# Altium footprint library Control_Board_Library.PcbLib: 61 footprints (part 1 of 4)
Each footprint in its own frame and in the unit in brackets; x right, y up, seen from the top. Pads: shape width x height; smd on the part's side, far side on the other; paste and mask are expansions set on the pad; w line width, h text height; cw(c..) or ccw(c..) is an arc to the next point about the centre after c.
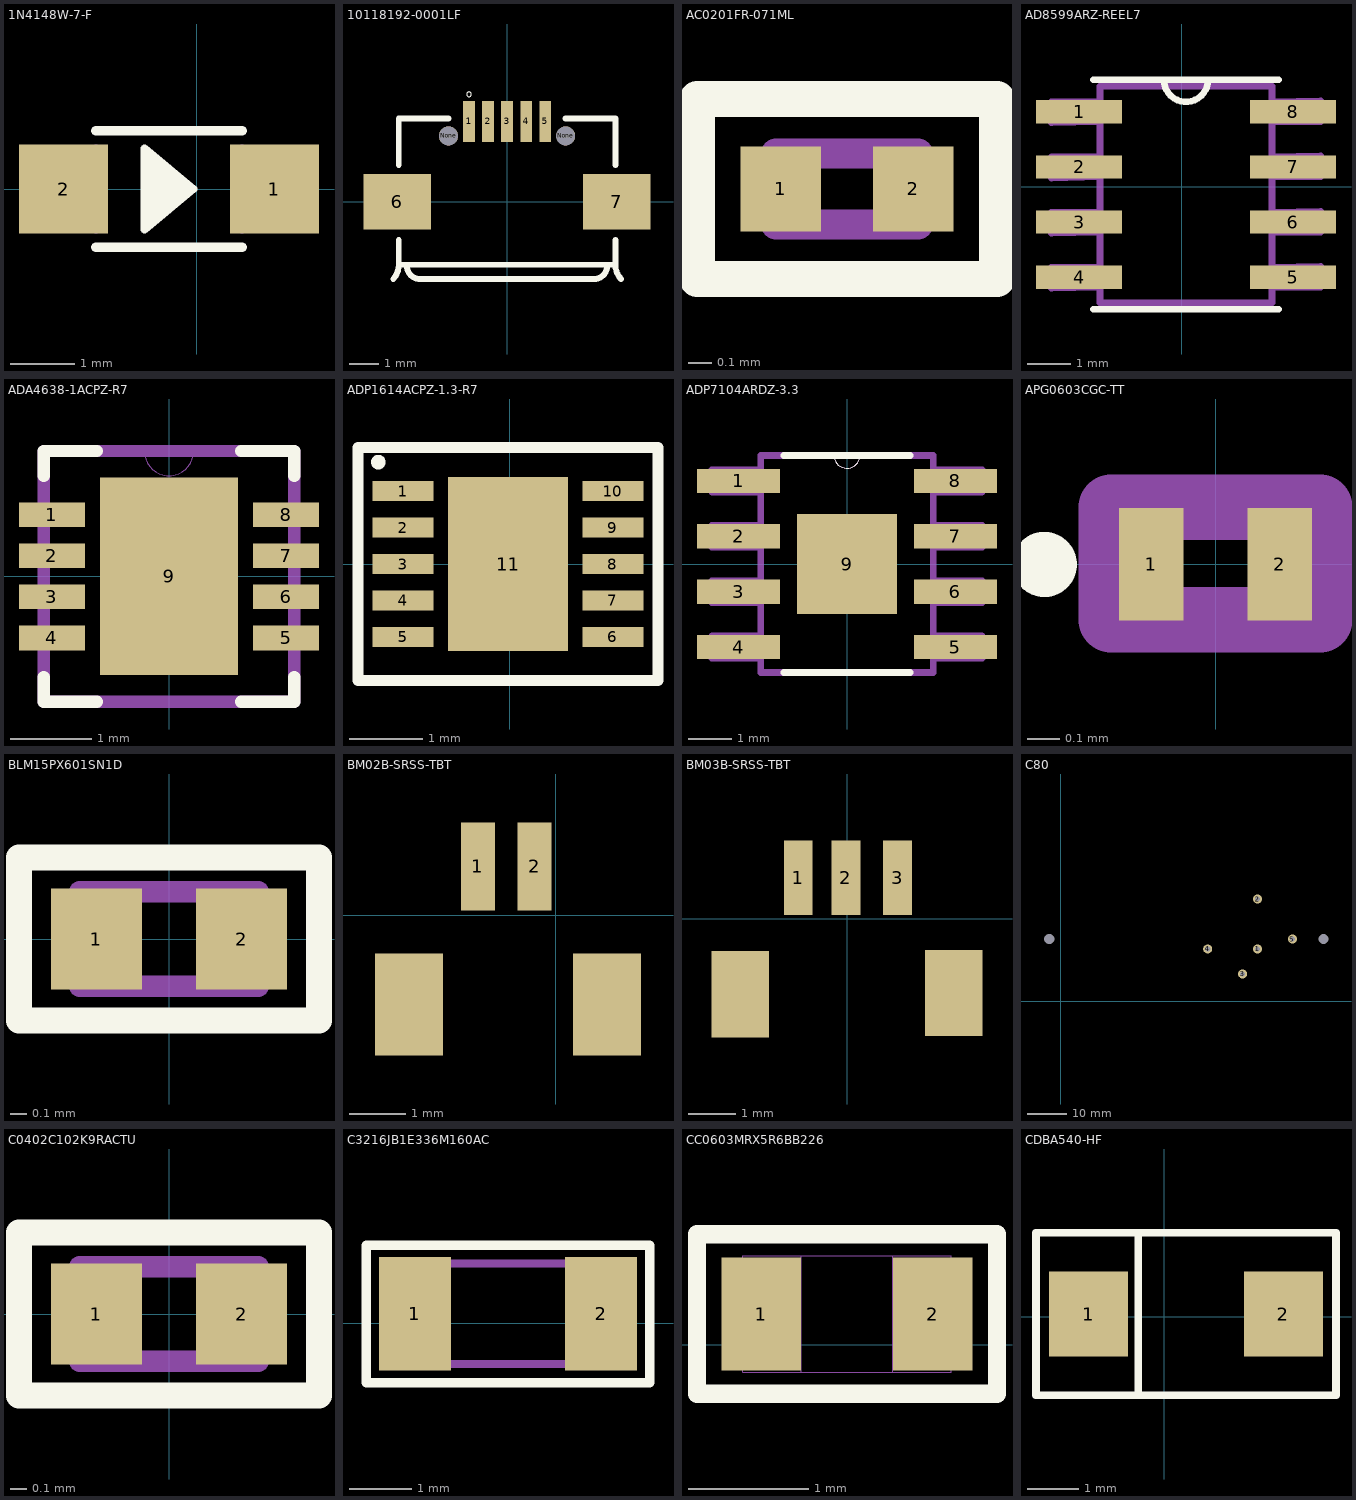
[diagram p0: the footprints below, top view; thin cyan lines are the x and y axes]

## 1N4148W-7-F [mil]
pads (2):
  rect 55x55 smd: 1(48,0) 2(-82,0)
Top Overlay:
  lines w5: -22,0 -22,5 ; -32,-20 -27,20 -7,0 -32,-15 ; -32,-20 -2,0 ; -32,-20 -32,-15 ; -32,-20 -32,-25 -2,0 ; -32,-15 -27,15 -12,0 -27,-10 -27,-5 ; -32,-15 -32,25 -2,0 ; -27,-5 -22,5 ; -27,-5 -17,0 -22,5 ; -27,-5 -27,10 -22,5
  lines w6: -62,-36 28,-36 ; -62,36 28,36
Mechanical 1:
  region: -64.24,-15.78 -93.92,-15.78 -93.92,17.72 -64.24,17.72
  region: 59.77,-15.78 30.33,-15.78 30.33,17.72 59.77,17.72
  lines w5: -62,-25 -62,25 ; 28,-25 28,25
3D body "SOD123.STEP": height 50, standoff 0, extent -89.83,-31.49 55.84,31.51

## 10118192-0001LF [mm]
pads (9):
  rect 0.4x1.4 smd: 1(-1.3,2.75) 2(-0.65,2.75) 3(0,2.75) 4(0.65,2.75) 5(1.3,2.75)
  rect 2.3x1.9 smd: 6(-3.75,0) 7(3.75,0)
  round 0.65 hole 0.65 unplated: None(-2,2.25) None(2,2.25)
Top Overlay:
  circle w0: c-1.3,3.67 r0.081
  lines w0.127: -3.42,-2.19 -3.42,-2.15
  lines w0.2: -3.887,-2.636 ccw(c-4.395,-2.162) -3.7,-2.15 ; -3.7,-1.3 -3.7,-2.15 ; -3.7,1.26 -3.7,2.85 -2,2.85 ; -3.42,-2.193 ccw(c-2.965,-2.185) -2.957,-2.64 ; -2.96,-2.64 2.96,-2.64 ; 2,2.85 3.7,2.85 3.7,1.26 ; 2.957,-2.64 ccw(c2.965,-2.185) 3.42,-2.193 ; 3.7,-1.3 3.7,-2.15 ; 3.887,-2.636 cw(c4.427,-2.15) 3.7,-2.15 ; -3.7,-2.15 -3.42,-2.15 3.7,-2.15
3D body "MICRO USB B.STEP": height 2.74, standoff -0.2, extent -3.99,-2.704 3.99,2.726

## AC0201FR-071ML [mm]
pads (2):
  rect 0.34x0.36 smd: 1(7.975,14.351) 2(8.535,14.351)
Top Overlay:
  lines w0.152: 7.62,13.97 7.62,14.732 8.89,14.732 8.89,13.97 7.62,13.97
Mechanical 1:
  region: 8.456,14.451 8.555,14.451 8.555,14.251 8.456,14.251
  region: 7.954,14.451 8.055,14.451 8.055,14.251 7.954,14.251
  lines w0.127: 7.955,14.201 7.955,14.501 8.555,14.501 8.555,14.201 7.955,14.201
3D body "Resistor_0201.STEP": height 0.34, standoff 0, extent 7.915,14.186 8.595,14.516

## AD8599ARZ-REEL7 [mil]
pads (8):
  rect 78x21 smd: 1(-93,68) 2(-93,18) 3(-93,-32) 4(-93,-82) 5(101,-82) 6(101,-32) 7(101,18) 8(101,68)
Top Overlay:
  lines w6: -80,-111 88,-111 ; -80,97 88,97 ; -16,97 ccw(c4,97) 24,97
Mechanical 1:
  lines w6: -118,-92 -74,-91 -74,-73 -118,-73 -118,-92 ; -118,-42 -74,-41 -74,-23 -118,-23 -118,-42 ; -118,8 -74,9 -74,27 -118,27 -118,8 ; -118,58 -74,59 -74,77 -118,77 -118,58 ; -74,-105 -74,91 -8,91 82,91 82,-105 -74,-105 ; 82,-91 126,-91 126,-72 82,-73 82,-91 ; 82,-41 126,-41 126,-22 82,-23 82,-41 ; 82,9 126,9 126,28 82,27 82,9 ; 82,59 126,59 126,78 82,77 82,59
3D body "8-SOIC.STEP": height 68.9, standoff 0, extent -118.1,-101.46 118.12,91.46

## ADA4638-1ACPZ-R7 [mil]
pads (9):
  rect 32x12 smd: 1(-57,30) 2(-57,10) 3(-57,-10) 4(-57,-30) 5(57,-30) 6(57,-10) 7(57,10) 8(57,30)
  rect 67x96 smd: 9(0,0)
Top Overlay:
  lines w6: -61,-49 -61,-61 -35,-61 ; -61,49 -61,61 -35,61 ; 35,-61 61,-61 61,-49 ; 35,61 61,61 61,49
Mechanical 1:
  lines w0: -12,61 ccw(c0,61) 12,61
  lines w6: -61,-61 61,-61 61,61 12,61 -12,61 -61,61 -61,-61

## ADP1614ACPZ-1.3-R7 [mm]
pads (11):
  rect 0.84x0.27 smd: 1(-1.465,1) 2(-1.465,0.5) 3(-1.465,0) 4(-1.465,-0.5) 5(-1.465,-1) 6(1.415,-1) 7(1.415,-0.5) 8(1.415,0) 9(1.415,0.5) 10(1.415,1)
  rect 1.64x2.38 smd: 11(-0.025,0)
Top Overlay:
  circle w0.1: c-1.803,1.397 r0.05
  lines w0.152: -2.083,-1.6 -2.083,1.6 2.032,1.6 2.032,-1.6 -2.083,-1.6
Top Paste:
  region: -0.617,0.753 0.493,0.753 0.493,-0.858 -0.617,-0.858
3D body "10-LFCSP-WD.STEP": height 0.85, standoff 0.05, extent -1.575,-1.5 1.525,1.5

## ADP7104ARDZ-3.3 [mil]
pads (9):
  rect 75x22 smd: 1(-98,75) 2(-98,25) 3(-98,-25) 4(-98,-75) 5(98,-75) 6(98,-25) 7(98,25) 8(98,75)
  rect 90x90 smd: 9(0,0)
Top Overlay:
  lines w0: -12,98.08 ccw(c0,98.5) 12,98.92
  lines w6: -57,-98 57,-98 ; -57,98 -12,98 57,98
Mechanical 4:
  lines w0: -12,98.08 ccw(c0,98.5) 12,98.92 cw(c0,98.5) -12,98.08
  lines w6: -122,-85 -122,-65 ; -122,-85 -78,-85 ; -122,-85 -122,-65 ; -122,-85 -78,-85 ; -122,-65 -78,-65 ; -122,-65 -78,-65 ; -122,-35 -122,-15 ; -122,-35 -78,-35 ; -122,-35 -122,-15 ; -122,-35 -78,-35 ; -122,-15 -78,-15 ; -122,-15 -78,-15 ; -122,15 -122,35 ; -122,15 -78,15 ; -122,15 -122,35 ; -122,15 -78,15 ; -122,35 -78,35 ; -122,35 -78,35 ; -122,65 -122,85 ; -122,65 -78,65 ; -122,65 -122,85 ; -122,65 -78,65 ; -122,85 -78,85 ; -122,85 -78,85 ; -78,-98 78,-98 ; -78,-98 -78,98 ; -78,-98 78,-98 ; -78,-98 -78,98 ; -78,-85 -78,-65 ; -78,-85 -78,-65 ; -78,-35 -78,-15 ; -78,-35 -78,-15 ; -78,15 -78,35 ; -78,15 -78,35 ; -78,65 -78,85 ; -78,65 -78,85 ; -78,98 -12,98 ; -78,98 -12,98 ; -12,98 78,98 ; -12,98 78,98 ; 78,-98 78,98 ; 78,-98 78,98 ; 78,-85 78,-65 ; 78,-85 122,-85 ; 78,-85 78,-65 ; 78,-85 122,-85 ; 78,-65 122,-65 ; 78,-65 122,-65 ; 78,-35 78,-15 ; 78,-35 122,-35 ; 78,-35 78,-15 ; 78,-35 122,-35 ; 78,-15 122,-15 ; 78,-15 122,-15 ; 78,15 78,35 ; 78,15 122,15 ; 78,15 78,35 ; 78,15 122,15 ; 78,35 122,35 ; 78,35 122,35 ; 78,65 78,85 ; 78,65 122,65 ; 78,65 78,85 ; 78,65 122,65 ; 78,85 122,85 ; 78,85 122,85 ; 122,-85 122,-65 ; 122,-85 122,-65 ; 122,-35 122,-15 ; 122,-35 122,-15 ; 122,15 122,35 ; 122,15 122,35 ; 122,65 122,85 ; 122,65 122,85
3D body "ADP7104.step": height 66.93, standoff 0, extent -118.11,-96.45 118.11,96.46

## APG0603CGC-TT [mm]
pads (2):
  rect 0.2x0.35 smd: 1(-0.2,0) 2(0.2,0)
Top Overlay:
  circle w0.152: c-0.533,0 r0.025
Mechanical 1:
  lines w0.203: -0.325,-0.172 -0.325,0.178 0.325,0.178 0.325,-0.172 -0.325,-0.172
3D body: height 0.2, standoff 0, extent -0.381,-0.254 0.381,0.254

## BLM15PX601SN1D [mm]
pads (2):
  rect 0.54x0.6 smd: 1(-0.43,0) 2(0.43,0)
Top Overlay:
  lines w0.152: -0.889,-0.483 -0.889,0.483 0.889,0.483 0.889,-0.483 -0.889,-0.483
Mechanical 1:
  lines w0.127: -0.53,-0.28 -0.53,0.28 0.53,0.28 0.53,-0.28 -0.53,-0.28
3D body "Capacitor_0402.stp": height 0.55, standoff 0, extent -0.525,-0.279 0.525,0.271

## BM02B-SRSS-TBT [mm]
pads (4):
  rect 0.6x1.55 smd: 1(-1.377,0.86) 2(-0.377,0.86)
  rect 1.2x1.8 smd: ""(-2.591,-1.575) ""(0.9,-1.575)
3D body "BM02B-SRSS-TB.STEP": height 4.28, standoff -0.04, extent -2.889,-2.279 1.111,1.321

## BM03B-SRSS-TBT [mm]
pads (5):
  rect 0.6x1.55 smd: 1(-1.021,0.86) 2(-0.021,0.86) 3(1.056,0.86)
  rect 1.2x1.8 smd: ""(-2.235,-1.575) ""(2.235,-1.549)
3D body "BM03B-SRSS-TB.STEP": height 4.28, standoff -0.04, extent -2.449,-2.351 2.551,1.249

## C80 [mil]
pads (7):
  round 90 hole 52: 1(1970,525) 2(1970,1025) 3(1820,275) 4(1470,525) 5(2320,625)
  round 0 hole 104 unplated: ""(-119,625) ""(2631,625)
Bottom Overlay:
  lines w1: -250,475 -250,775
  lines w6: -250,475 0,475 ; -250,775 0,775 ; 2506,475 2756,475 2756,775 2506,775 ; 0,0 0,1250 2506,1250 2506,0 0,0
3D body "C80 EMCO.STEP": height 100, standoff -725.24, extent -697.85,-1 2749,1249

## C0402C102K9RACTU [mm]
pads (2):
  rect 0.54x0.6 smd: 1(-0.43,0) 2(0.43,0)
Top Overlay:
  lines w0.152: -0.889,-0.483 -0.889,0.483 0.889,0.483 0.889,-0.483 -0.889,-0.483
Mechanical 1:
  lines w0.127: -0.53,-0.28 -0.53,0.28 0.53,0.28 0.53,-0.28 -0.53,-0.28
3D body "Capacitor_0402.stp": height 0.55, standoff 0, extent -0.525,-0.279 0.525,0.271

## C3216JB1E336M160AC [mm]
pads (2):
  rect 1.15x1.82 smd: 1(-4.355,0.152) 2(-1.385,0.152)
Top Overlay:
  lines w0.152: -5.131,-0.948 -5.131,1.245 -0.61,1.245 -0.61,-0.948 -5.131,-0.948
Mechanical 1:
  lines w0.127: -4.47,-0.648 -4.47,0.952 -1.27,0.952 -1.27,-0.648 -4.47,-0.648
3D body "Capacitor_1206.stp": height 1.79, standoff -0.01, extent -4.494,-0.759 -1.094,1.041

## CC0603MRX5R6BB226 [mil]
pads (2):
  rect 26x37 smd: 1(-158,10) 2(-102,10)
Top Overlay:
  lines w6: -179,-16 -81,-16 -81,36 -179,36 -179,-16
Mechanical 1:
  lines w0: -145,-9 -145,29 ; -145,-9 -164,-9 -164,29 -145,29 ; -145,-9 -115,-9 ; -145,29 -115,29 ; -115,-9 -115,29 ; -115,-9 -96,-9 -96,29 -115,29
3D body "Capacitor_0603.stp": height 37.34, standoff -0.06, extent -164.45,-7.25 -95.56,27

## CDBA540-HF [mm]
pads (2):
  rect 1.555x1.67 smd: 1(-1.483,0.051) 2(2.347,0.051)
Top Overlay:
  lines w0.152: -0.508,-1.524 -0.507,1.651 ; -2.518,-1.549 -2.518,1.651 3.382,1.651 3.382,-1.549 -2.518,-1.549
3D body "DO-214AC.STEP": height 2.36, standoff 0.08, extent -2.286,-1.346 3.201,1.448